# EAGLE library part AHES4 (library Panasonic Relay)
HE-S - 2 Form A 1 Form B - Single side stable Data sheet <https://www.panasonic-electric-works.com/eu/download.htm?id=115864> Parameters Max. switching voltage: 110 V DC / 480 V AC Max. switching current: 35A Operational function: Single side stable Contact arrangement: 2 NO 1 NC / 2 NO 1 NC Applications Photovoltaic power generation systems (Solar inverter) Uninterruptible Power Supplies (UPS) Inverter Office air conditioner Industrial equipment Options Also available as 2 Form A version. For both, the 2 Form A and 2 Form A 1 Form B versions, standard and long life types exist.
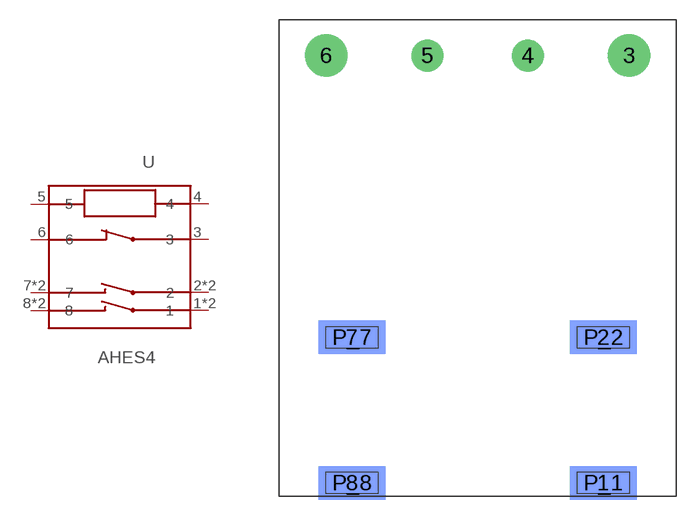
[diagram p62: symbol with the pads of HE-S_2_FORM_A_1_FORM_B_TYPE; footprint HE-S_2_FORM_A_1_FORM_B_TYPE]

Designator prefix -

## AHES4190 (U_COIL: 6V DC), AHES4191 (U_COIL: 12V DC), AHES4192 (U_COIL: 24V DC), AHES4193 (U_COIL: 48V DC), AHES4195 (U_COIL: 9V DC), AHES4290 (U_COIL: 6V DC), AHES4291 (U_COIL: 12V DC), AHES4292 (U_COIL: 24V DC), AHES4293 (U_COIL: 48V DC), AHES4295 (U_COIL: 9V DC)  [HE-S_2_FORM_A_1_FORM_B_TYPE]
1  1
2  2
3  3
4  4
5  5
6  6
7  7
8  8
P_1  1
P_2  2
P_7  7
P_8  8

## Footprint HE-S_2_FORM_A_1_FORM_B_TYPE (pad centres in mm)
smd 5.08 x 2.54 bottom: 1 9.5,-17; 2 9.5,-6; 7 -9.5,-6; 8 -9.5,-17
drill 2.2: 3 11.45,15.3; 6 -11.45,15.3
drill 1.6: 4 3.8,15.3; 5 -3.8,15.3
smd 5.08 x 2.54: P_1 9.5,-17; P_2 9.5,-6; P_7 -9.5,-6; P_8 -9.5,-17